# Altium schematic symbol library INNOVMED.SchLib: 57 symbols
Pins are listed as number, name and electrical type; pins without a type are passive.

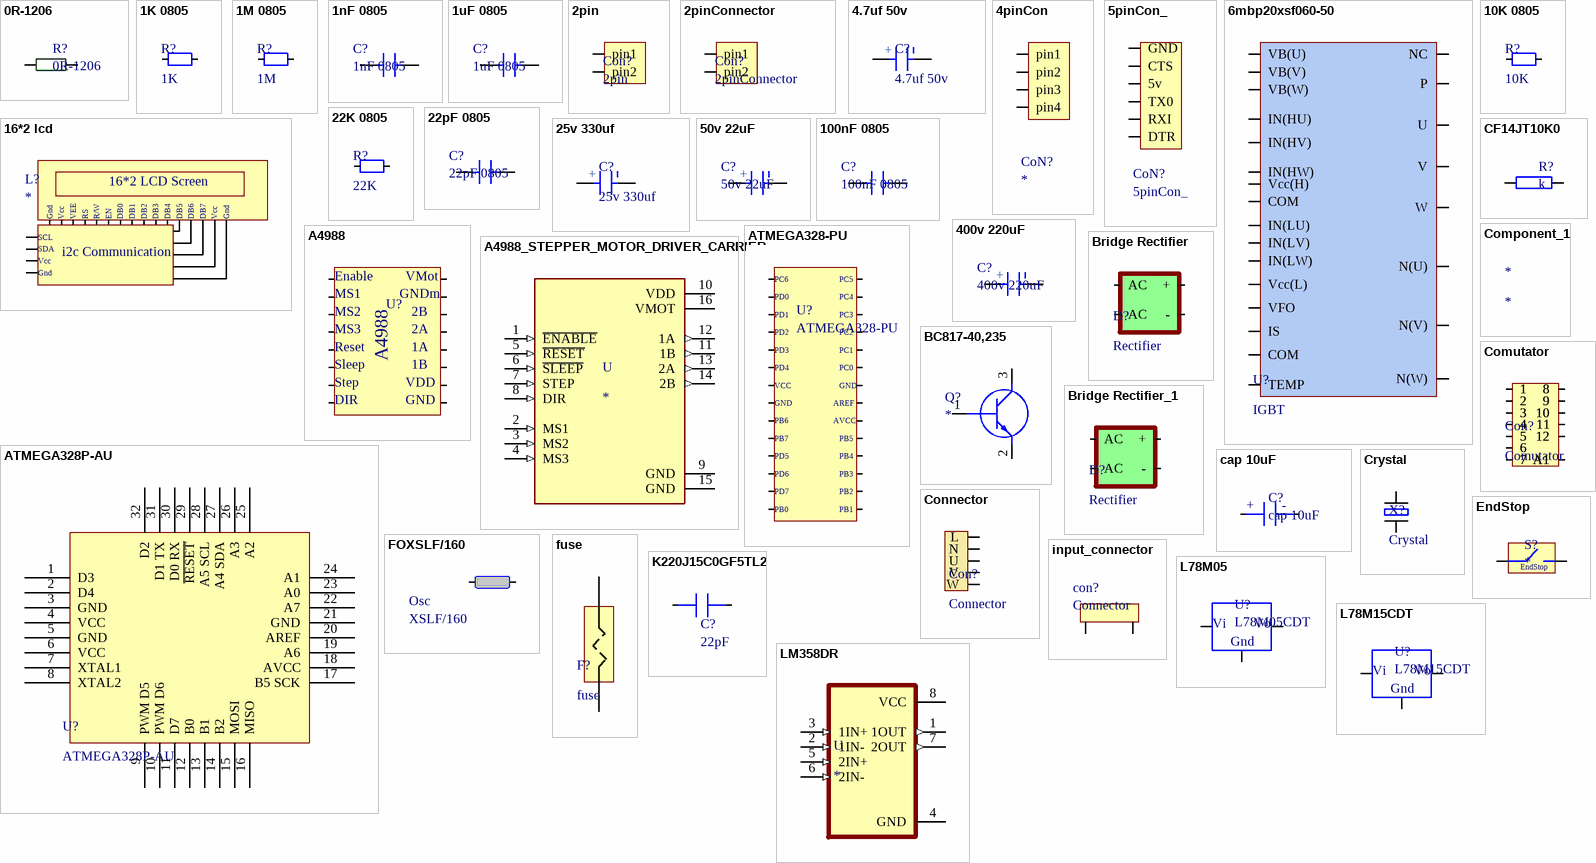
[diagram p0: symbols 0R-1206 to LM358DR]

## 0R-1206
designator R?
Res1206
footprint R-1206
pins: 1, 2

## 1K 0805
designator R?, comment 1K
footprint R-0805R (resistor 0805 reflow soldering)
pins: 1, 2

## 1M 0805
designator R?, comment 1M
footprint R-0805R (resistor 0805 reflow soldering)
pins: 1, 2

## 1nF 0805
designator C?
Manufacturer: Nichicon; Manufacturer Part Number: LKS1J472MESZ; Voltage Rating: 63V; Tolerance: 20%; Ripple Current: 3A; Life (Hours): 1000Hour; Supplier 1: Mouser; RoHS: Yes; Mount: Through Hole; Case/Package: Radial; Min Operating Temperature: -40°C; Max Operating Temperature: 85°C; Package Quantity: 250; Packaging: Bulk; Voltage Rating (DC): 63V; Termination: Snap in; Diameter: 22mm; Length: 45mm; Lead Pitch: 0.394inch; Height - Seated (Max): 1.772inch; Supplier Part Number 1: 647-LKS1J472MESZ; ComponentLink1Description: Link; ComponentLink1URL: https://ozdisan.com/passive-components/capacitors/smt-smd-and-mlcc-capacitors/CL21B102KBANNNC
footprint C-0805R (capacitor 0805 reflow soldering)
pins: 1, 2

## 1uF 0805
designator C?
Manufacturer: Nichicon; Manufacturer Part Number: LKS1J472MESZ; Voltage Rating: 63V; Tolerance: 20%; Ripple Current: 3A; Life (Hours): 1000Hour; Supplier 1: Mouser; RoHS: Yes; Mount: Through Hole; Case/Package: Radial; Min Operating Temperature: -40°C; Max Operating Temperature: 85°C; Package Quantity: 250; Packaging: Bulk; Voltage Rating (DC): 63V; Termination: Snap in; Diameter: 22mm; Length: 45mm; Lead Pitch: 0.394inch; Height - Seated (Max): 1.772inch; Supplier Part Number 1: 647-LKS1J472MESZ
footprint C-0805R (capacitor 0805 reflow soldering)
pins: 1, 2

## 2pin
designator Con?
footprint Contactor
pins: 1 pin1, 2 pin2

## 2pinConnector
designator Con?
footprint 2pinCon
pins: 1 pin1, 2 pin2

## 4.7uf 50v
designator C?
footprint 4x5.3 cap
pins: 1, 2
text: +

## 4pinCon
designator CoN?
footprint 4pinCon
pins: 1 pin1, 2 pin2, 3 pin3, 4 pin4

## 5pinCon_
designator CoN?
footprint 5pinCon
pins: 1 DTR, 2 RXI, 3 TX0, 4 5v, 5 CTS, 6 GND

## 6mbp20xsf060-50
designator U?, comment IGBT
footprint 6MBP20XSF06050P
pins: 3 VB(U), 5 VB(V), 7 VB(W), 9 IN(HU), 10 IN(HV), 11 IN(HW), 12 Vcc(H), 13 COM, 14 IN(LU), 15 IN(LV), 16 IN(LW), 17 Vcc(L), 18 VFO, 19 IS, 20 COM, 21 TEMP, 22 N(W), 23 N(V), 24 N(U), 26 W, 28 V, 30 U, 32 P, 36 NC

## 10K 0805
designator R?, comment 10K
footprint R-0805R (resistor 0805 reflow soldering)
pins: 1, 2

## 16*2 lcd
designator L?
footprint 4pinCon
pins: 1, 2, 3, 4
text: 16*2 LCD Screen; Gnd; Vcc; VEE; RS; R/W; EN; DB0; DB1; DB2; DB3; DB4; DB5; DB6; DB7; SCL; SDA; i2c Communication

## 22K 0805
designator R?, comment 22K
footprint R-0805R (resistor 0805 reflow soldering)
pins: 1, 2

## 22pF 0805
designator C?
Manufacturer: Nichicon; Manufacturer Part Number: LKS1J472MESZ; Voltage Rating: 63V; Tolerance: 20%; Ripple Current: 3A; Life (Hours): 1000Hour; Supplier 1: Mouser; RoHS: Yes; Mount: Through Hole; Case/Package: Radial; Min Operating Temperature: -40°C; Max Operating Temperature: 85°C; Package Quantity: 250; Packaging: Bulk; Voltage Rating (DC): 63V; Termination: Snap in; Diameter: 22mm; Length: 45mm; Lead Pitch: 0.394inch; Height - Seated (Max): 1.772inch; Supplier Part Number 1: 647-LKS1J472MESZ; ComponentLink1Description: Link; ComponentLink1URL: https://ozdisan.com/passive-components/capacitors/smt-smd-and-mlcc-capacitors/CL21C220JCANNNC
footprint C-0805R (capacitor 0805 reflow soldering)
pins: 1, 2

## 25v 330uf
designator C?
ComponentLink1Description: Link; ComponentLink1URL: https://ozdisan.com/passive-components/capacitors/aluminum-capacitors/BXJ25VC330MJ10TP
footprint 10*10 capacitor
pins: 1, 2
text: +

## 50v 22uF
designator C?
Manufacturer: Nichicon; Manufacturer Part Number: LKS1J472MESZ; Capacitance: 4.7mF; Voltage Rating: 63V; Tolerance: 20%; Ripple Current: 3A; Life (Hours): 1000Hour; Supplier 1: Mouser; RoHS: Yes; Mount: Through Hole; Case/Package: Radial; Min Operating Temperature: -40°C; Max Operating Temperature: 85°C; Package Quantity: 250; Packaging: Bulk; Voltage Rating (DC): 63V; Termination: Snap in; Diameter: 22mm; Length: 45mm; Lead Pitch: 0.394inch; Height - Seated (Max): 1.772inch; Supplier Part Number 1: 647-LKS1J472MESZ; ComponentLink3Description: Link; ComponentLink3URL: https://ozdisan.com/passive-components/capacitors/aluminum-capacitors/MRW-050V220ME057-TR
footprint 50v 22uf (Aluminum Electrolytic Capacitor, Body 6.70x6.70x6.30mm, IPC Low Density)
pins: 1, 2
text: +

## 100nF 0805
designator C?
Manufacturer: Nichicon; Manufacturer Part Number: LKS1J472MESZ; Voltage Rating: 63V; Tolerance: 20%; Ripple Current: 3A; Life (Hours): 1000Hour; Supplier 1: Mouser; RoHS: Yes; Mount: Through Hole; Case/Package: Radial; Min Operating Temperature: -40°C; Max Operating Temperature: 85°C; Package Quantity: 250; Packaging: Bulk; Voltage Rating (DC): 63V; Termination: Snap in; Diameter: 22mm; Length: 45mm; Lead Pitch: 0.394inch; Height - Seated (Max): 1.772inch; Supplier Part Number 1: 647-LKS1J472MESZ; ComponentLink2Description: Link; ComponentLink2URL: https://ozdisan.com/Product/Detail/342152/CL21F104ZBANNNC
footprint C-0805R (capacitor 0805 reflow soldering)
pins: 1, 2

## 400v 220uF
designator C?
Manufacturer: Nichicon; Manufacturer Part Number: LKS1J472MESZ; Capacitance: 4.7mF; Voltage Rating: 63V; Tolerance: 20%; Ripple Current: 3A; Life (Hours): 1000Hour; Supplier 1: Mouser; RoHS: Yes; Mount: Through Hole; Case/Package: Radial; Min Operating Temperature: -40°C; Max Operating Temperature: 85°C; Package Quantity: 250; Packaging: Bulk; Voltage Rating (DC): 63V; Termination: Snap in; Diameter: 22mm; Length: 45mm; Lead Pitch: 0.394inch; Height - Seated (Max): 1.772inch; Supplier Part Number 1: 647-LKS1J472MESZ; ComponentLink2Description: https://www.ozdisan.com/pasif-komponentler/kondansatorler/aluminyum-kondansatorler/PKL5-063V472MM450; ComponentLink2URL: https://www.ozdisan.com/pasif-komponentler/kondansatorler/aluminyum-kondansatorler/PKL5-063V472MM450
footprint 400 220Uf
pins: 1, 2
text: +

## A4988
designator U?  (value not drawn)
pins: 1, 2, 3, 4, 5, 6, 7, 8, 9, 10, 11, 12, 13, 14, 15, 16
text: Enable; VMot; MS1; GNDm; MS2; 2B; MS3; 2A; Reset; 1A; Sleep; 1B; Step; VDD; DIR; GND

## A4988_STEPPER_MOTOR_DRIVER_CARRIER
designator U
Stepper Motor Driver; MP: A4988 STEPPER MOTOR DRIVER CARRIER; MF: Pololu; Availability: Unavailable; Price: None; Package: None; Value: *; SnapEDA_Link: https://www.snapeda.com/parts/A4988%20STEPPER%20MOTOR%20DRIVER%20CARRIER/Pololu/view-part/1499394/?ref=snap
footprint MODULE_A4988_STEPPER_MOTOR_DRIVER_CARRIER
pins: 1 ~{ENABLE} (in), 2 MS1 (in), 3 MS2 (in), 4 MS3 (in), 5 ~{RESET} (in), 6 ~{SLEEP} (in), 7 STEP (in), 8 DIR (in), 9 GND (power), 10 VDD (power), 11 1B (out), 12 1A (out), 13 2A (out), 14 2B (out), 15 GND (power), 16 VMOT (power)

## ATMEGA328-PU
designator U?
ATMEL         ATMEGA328-PU            8 Bit Microcontroller, Low Power High Performance, ATmega, 20 MHz, 32 KB, 2 KB, 28 Pins, DIP; Manufacturer: Microchip / Atmel; Core Architecture: AVR; RAM Size: 2KB; Interface: 2-Wire,I2C,SPI,UART,USART; Number of I/Os: 23; Number of Timers/Counters: 3; Max Supply Voltage: 5.5V; Min Supply Voltage: 1.8V; Frequency: 20MHz; Number of PWM Channels: 6; Data Bus Width: 8b; Oscillator Type: Internal; Number of SPI Channels: 1; Watchdog Timer: Yes; Memory Type: FLASH; Memory Size: 32KB; Peripherals: Brown-out Detect/Reset,POR,PWM,WDT; Supplier 1: Digi-Key; Manufacturer Part Number: ATMEGA328-PU; RoHS: Yes; Stock 1: 4361; Pricing 1: 1 = 1,96000, 25 = 1,79240, 100 = 1,62740 (USD); Mount: Through Hole; Case/Package: PDIP; Number of Pins: 28; Contact Plating: Matte,Tin; Min Operating Temperature: -40°C; Max Operating Temperature: 85°C; Package Quantity: 14; Packaging: Rail/Tube; Number of ADC Channels: 6; Number of Programmable I/O: 23; Max Frequency: 20MHz; Number of I2C Channels: 1; Length: 34.8mm; Height: 4.572mm; Width: 7.49mm; Radiation Hardening: No; REACH SVHC: No SVHC; Lead Free: Lead Free; ComponentLink1URL: http://www.rapidonline.com/pdf/73-4281.pdf?src-supplier=Rapid+Electronics; ComponentLink1Description: http://www.rapidonline.com/pdf/73-4281.pdf?src-supplier=Rapid+Electronics; ComponentLink2URL: http://www.farnell.com/datasheets/2047852.pdf?src-supplier=Element14; ComponentLink2Description: http://www.farnell.com/datasheets/2047852.pdf?src-supplier=Element14; Supplier Part Number 1: ATMEGA328-PU-ND
pins: 1, 2, 3, 4, 5, 6, 7, 8, 9, 10, 11, 12, 13, 14, 15, 16, 17, 18, 19, 20, 21, 22, 23, 24, 25, 26, 27, 28
text: PC6; PC5; PD0; PC4; PD1; PC3; PD2; PC2; PD3; PC1; PD4; PC0; VCC; GND; AREF; PB6; AVCC; PB7; PB5; PD5; PB4; PD6; PB3; PD7; PB2; PB0; PB1

## ATMEGA328P-AU
designator U?
Microchip Technology ATMEGA328P-AN, 8bit AVR Microcontroller, 20MHz, 32 kB Flash, 32-Pin TQFP
footprint TQFP80P900X900X120-32N (TQFP, 32-Leads, Body 7.00x7.00mm, Pitch 0.80mm, IPC Medium Density)
pins: 1 D3, 2 D4, 3 GND, 4 VCC, 5 GND, 6 VCC, 7 XTAL1, 8 XTAL2, 9 PWM D5, 10 PWM D6, 11 D7, 12 B0, 13 B1, 14 B2, 15 MOSI, 16 MISO, 17 B5 SCK, 18 AVCC, 19 A6, 20 AREF, 21 GND, 22 A7, 23 A0, 24 A1, 25 A2, 26 A3, 27 A4 SDA, 28 A5 SCL, 29 ~{RESET}, 30 D0 RX, 31 D1 TX, 32 D2

## BC817-40,235
designator Q?
Transistor BJT NPN; Manufacturer_Name: Nexperia; Manufacturer_Part_Number: BC817-40,235; Datasheet Link: http://assets.nexperia.com/documents/data-sheet/BC817_BC817W_BC337.pdf; Height: 1.1mm; Mouser Part Number: 771-BC817-40235; Mouser Price/Stock: https://www.mouser.com/Search/Refine.aspx?Keyword=771-BC817-40235; RS Part Number: 1707957; RS Price/Stock: http://uk.rs-online.com/web/p/products/1707957
footprint SOT95P230X110-3N
pins: 1 B, 2 E, 3 C

## Bridge Rectifier
designator D?, comment Rectifier
footprint Bridge Rectifier
pins: 1 AC, 2 +, 3 -, 4 AC

## Bridge Rectifier_1
designator D?, comment Rectifier
ComponentLink1Description: Link; ComponentLink1URL: https://ozdisan.com/power-semiconductors/diodes-diode-modules-and-rectifiers/bridge-diodes/DF10S-HT
footprint bridge
pins: 1 +, 2 -, 3 AC, 4 AC

## cap 10uF
designator C?
pins: 1, 2
text: +; -

## CF14JT10K0
designator R?, comment k
RES 10K OHM 1/4W 5% AXIAL; Manufacturer: Stackpole Electronics; Manufacturer Part Number: CF14JT10K0; Resistance: 10kR; Power Rating: 250mW; Temperature Coefficient: -500ppm/°C; Supplier 1: Digi-Key; RoHS: Yes; Stock 1: 1940000; Pricing 1: 5000 = 0,00475, 10000 = 0,00413, 25000 = 0,00363, 50000 = 0,00333, 125000 = 0,00326 (USD); Mount: Axial,Through Hole; Case/Package: Conformal; Contact Plating: Matte,Tin; Min Operating Temperature: -55°C; Max Operating Temperature: 155°C; Packaging: Tape and Reel; Tolerance: 5%; Package Quantity: 1; Composition: Carbon Film; Number of Terminations: 2; Military Standard: Not; Termination: Axial; Max Power Dissipation: 250mW; Features: Flame Retardant Coating; Diameter: 2.3mm; Length: 6.5mm; Radiation Hardening: No; Lead Free: Lead Free; Supplier Part Number 1: CF14JT10K0TR-ND
pins: 1, 2

## Component_1
designator *

## Comutator
designator Con?
footprint comutator
pins: 1, 1, 2, 2, 3, 3, 4, 4, 5, 5, 6, 6, 7, 7, 8, 8, 9, 9, 10, 10, 11, 11, 12, 12, A1, A1

## Connector
designator Con?
footprint Connector
pins: 1 L, 2 N, 3 U, 4 V, 5 W

## Crystal
designator X?
AS49SD-16M-FC160F3-TR
footprint crystal
pins: 1, 2

## EndStop
designator S?
pins: 1, 2

## FOXSLF/160
designator Osc, comment XSLF/160
CRYSTAL 16.0000MHZ SERIES T/H; Manufacturer: Fox Electronics; Manufacturer Part Number: FOXSLF/160; Frequency: 16MHz; ESR (Equivalent Series Resistance): 40R; Frequency Tolerance: 30ppm; Load Capacitance: 10pF; Tolerance: 50ppm; Supplier 1: Avnet; RoHS: Yes; Stock 1: 640; Pricing 1: 1 = 0,31290, 10 = 0,24990, 25 = 0,24890, 50 = 0,22990, 100 = 0,19790 (USD); Mount: Through Hole; Number of Pins: 2; Min Operating Temperature: -20°C; Max Operating Temperature: 70°C; Package Quantity: 100; Packaging: Bulk; Frequency Stability: 50ppm; Termination: Radial; Series Resistance: 40R; Length: 0.447inch; Height: 0.142inch; Width: 0.183inch; Depth: 4.65mm; Radiation Hardening: No; Lead Free: Lead Free; ComponentLink1URL: https://www.verical.com/server-webapp/html/getDatasheet?partID=570144&src-supplier=Verical; ComponentLink1Description: https://www.verical.com/server-webapp/html/getDatasheet?partID=570144&src-supplier=Verical; ComponentLink2URL: http://www.foxonline.com/pdfs/hc49slf.pdf?src-supplier=Avnet; ComponentLink2Description: http://www.foxonline.com/pdfs/hc49slf.pdf?src-supplier=Avnet; ComponentLink3URL: http://www.alliedelec.com/m/d/2bb505bcc654a97d0ed1bbb51c9a6d6e.pdf?src-supplier=Allied+Electronics; ComponentLink3Description: http://www.alliedelec.com/m/d/2bb505bcc654a97d0ed1bbb51c9a6d6e.pdf?src-supplier=Allied+Electronics; ComponentLink4URL: http://www.foxonline.com/pdfs/hc49slf.pdf?src-supplier=Avnet+Europe; ComponentLink4Description: http://www.foxonline.com/pdfs/hc49slf.pdf?src-supplier=Avnet+Europe; ComponentLink5URL: https://www.foxonline.com/pdfs/C4ST.pdf?src-supplier=Digi-Key; ComponentLink5Description: https://www.foxonline.com/pdfs/C4ST.pdf?src-supplier=Digi-Key; Supplier Part Number 1: FOXSLF/160-BAG200
pins: 1, 2

## fuse
designator F?
footprint fuse holder
pins: 1, 2

## input_connector
designator con?, comment Connector
pins: 1, 2

## K220J15C0GF5TL2
designator C?, comment 22pF
CAP CER 22PF 50V C0G/NP0 RADIAL; Manufacturer: Vishay BCcomponents; Manufacturer Part Number: K220J15C0GF5TL2; Dielectric Material: Ceramic; Tolerance: 5%; Dielectric: C0G; Lead/Base Style: Straight; Lead Diameter: 0.5mm; Lead Length: 30mm; Supplier 1: Digi-Key; RoHS: Yes; Stock 1: 69696; Pricing 1: 1 = 0,26000, 10 = 0,17400, 100 = 0,08830, 500 = 0,06040, 1000 = 0,05343 (USD); Mount: PCB,Radial,Through Hole; Case/Package: Dipped; Number of Pins: 2; Weight: 0.005291oz; Min Operating Temperature: -55°C; Max Operating Temperature: 125°C; Capacitance: 22pF; Voltage Rating: 50V; Package Quantity: 4000; Packaging: Tape and Reel; Voltage Rating (DC): 50V; Termination: Radial; Voltage: 50V; Length: 4mm; Height: 4mm; Width: 0.098inch; Lead Pitch: 2.5mm; Height - Seated (Max): 0.22inch; Depth: 2.6mm; Radiation Hardening: No; REACH SVHC: Unknown; Lead Free: Lead Free; ComponentLink1URL: http://www.vishay.com/docs/49363/49363_vmn-pt9161.pdf?src-supplier=Digi-Key; ComponentLink1Description: http://www.vishay.com/docs/49363/49363_vmn-pt9161.pdf?src-supplier=Digi-Key; ComponentLink2URL: https://www.alliedelec.com/m/d/0a55132c315b03541979b2302407a53b.pdf?src-supplier=Allied+Electronics; ComponentLink2Description: https://www.alliedelec.com/m/d/0a55132c315b03541979b2302407a53b.pdf?src-supplier=Allied+Electronics; Supplier Part Number 1: BC1005CT-ND
pins: 1, 2

## L78M05
designator U?, comment L78M05CDT
Manufacturer: STMicroelectronics; Manufacturer Part Number: L78M15CDT; Max Output Current: 500mA; Output Voltage: 15V; Number of Outputs: 1; Max Input Voltage: 35V; Polarity: Positive; Quiescent Current: 6mA; Output Type: Fixed; Dropout Voltage: 2V; Supplier 1: Avnet; RoHS: Yes; Mount: Surface Mount; Case/Package: DPAK; Number of Pins: 3; Min Operating Temperature: 0°C; Max Operating Temperature: 150°C; Packaging: Rail/Tube; Output Current: 500mA; Min Input Voltage: 35V; Package Quantity: 75; Length: 6.6mm; Height: 2.4mm; Width: 6.2mm; Radiation Hardening: No; Supplier Part Number 1: L78M15CDT; ComponentLink1Description: Link; ComponentLink1URL: https://ozdisan.com/integrated-circuits-ics/power-management-ics/linear-voltage-regulators/MC7805BDTRKG
footprint TO-252
pins: 1, 2, 3
text: Vi; Vo; Gnd

## L78M15CDT
designator U?
Manufacturer: STMicroelectronics; Max Output Current: 500mA; Output Voltage: 15V; Number of Outputs: 1; Max Input Voltage: 35V; Polarity: Positive; Quiescent Current: 6mA; Output Type: Fixed; Dropout Voltage: 2V; Supplier 1: Avnet; Manufacturer Part Number: L78M15CDT; RoHS: Yes; Mount: Surface Mount; Case/Package: DPAK; Number of Pins: 3; Min Operating Temperature: 0°C; Max Operating Temperature: 150°C; Packaging: Rail/Tube; Output Current: 500mA; Min Input Voltage: 35V; Package Quantity: 75; Length: 6.6mm; Height: 2.4mm; Width: 6.2mm; Radiation Hardening: No; Supplier Part Number 1: L78M15CDT; ComponentLink1Description: link; ComponentLink1URL: https://karakoyelektronik.com/regulator/ua78m15-21734
footprint TO-252
pins: 1, 2, 3
text: Vi; Vo; Gnd

## LM358DR
designator U
Dual standard operational amplifier 8-SOIC 0 to 70; MP: LM358DR; MF: Texas Instruments; Availability: Good; Mouser-Purchase-URL: https://snapeda.com/shop?store=Mouser&id=231187; SnapEDA_Link: https://www.snapeda.com/parts/LM358DR/Texas%20Instruments/view-part/231187/?ref=snap; Price: None; Value: *; Texas_Instruments-Purchase-URL: https://snapeda.com/shop?store=Texas+Instruments&id=231187; Package: SOIC-8 Texas Instruments; DigiKey-Purchase-URL: https://snapeda.com/shop?store=DigiKey&id=231187; ComponentLink1Description: Link; ComponentLink1URL: https://ozdisan.com/Product/Detail/13257/LM358DR
footprint SOIC127P599X175-8N
pins: 1 1OUT (out), 2 1IN- (in), 3 1IN+ (in), 4 GND (power), 5 2IN+ (in), 6 2IN- (in), 7 2OUT (out), 8 VCC (power)

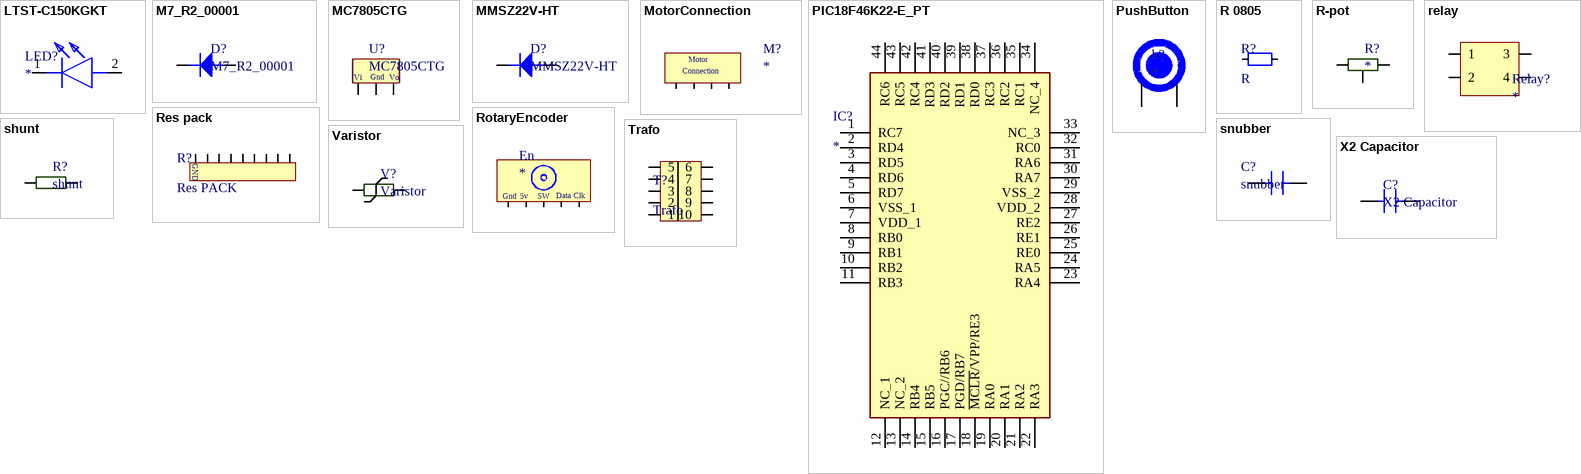
[diagram p1: symbols LTST-C150KGKT to X2 Capacitor]

## LTST-C150KGKT
designator LED?
LED; Manufacturer_Name: Lite-On; Manufacturer_Part_Number: LTST-C150KGKT; Datasheet Link: http://optoelectronics.liteon.com/upload/download/ds22-2000-072/ltst-c150kgkt.pdf; Height: 1.2mm; Mouser Part Number: 859-LTST-C150KGKT; Mouser Price/Stock: https://www.mouser.com/Search/Refine.aspx?Keyword=859-LTST-C150KGKT; RS Part Number: 6920871; RS Price/Stock: https://uk.rs-online.com/web/p/products/6920871
footprint led
pins: 1 K, 2 A

## M7_R2_00001
designator D?
ComponentLink1Description: Link; ComponentLink1URL: https://ozdisan.com/power-semiconductors/diodes-diode-modules-and-rectifiers/general-purpose-diodes/M7R200001
footprint DO-214AC
pins: a, k

## MC7805CTG
designator U?
IC REG LINEAR 5V 1A TO220AB; Manufacturer: ON Semiconductor; Dropout Voltage: 2V; Number of Outputs: 1; Max Input Voltage: 35V; Min Input Voltage: 7V; Polarity: Positive; Quiescent Current: 6.5mA; Accuracy: 4%; Power Supply Rejection Ratio (PSRR): 83dB; Output Type: Fixed; Supplier 1: Digi-Key; Manufacturer Part Number: MC7805CTG; RoHS: Yes; Stock 1: 32419; Pricing 1: 1 = 0,640000, 50 = 0,525400, 100 = 0,428900, 500 = 0,339020, 1000 = 0,271220 (USD); Mount: Through Hole; Case/Package: TO-220; Number of Pins: 3; Weight: 0.211644oz; Min Operating Temperature: 0°C; Max Operating Temperature: 125°C; Packaging: Rail/Tube; Output Voltage: 5V; Output Current: 1A; Current Rating: 1A; Package Quantity: 50; Max Output Current: 1A; Nominal Output Voltage: 5V; Number of Regulators: 1; Min Output Voltage: 5V; Output Voltage Accuracy: 4%; Operating Supply Voltage: 35V; Length: 10.28mm; Height: 0.62inch; Width: 4.82mm; Radiation Hardening: No; REACH SVHC: No SVHC; Lead Free: Lead Free; Halogen Free: Halogen Free; ComponentLink1URL: http://www.onsemi.com/pub/Collateral/MC7800-D.PDF?src-supplier=Digi-Key; ComponentLink1Description: http://www.onsemi.com/pub/Collateral/MC7800-D.PDF?src-supplier=Digi-Key; ComponentLink2URL: http://www.onsemi.com/pub/Collateral/MC7800-D.PDF?src-supplier=Avnet+Europe; ComponentLink2Description: http://www.onsemi.com/pub/Collateral/MC7800-D.PDF?src-supplier=Avnet+Europe; ComponentLink3URL: http://www.farnell.com/datasheets/87758.pdf?src-supplier=Farnell; ComponentLink3Description: http://www.farnell.com/datasheets/87758.pdf?src-supplier=Farnell; ComponentLink4URL: http://www.onsemi.com/pub/Collateral/MC7800-D.PDF?src-supplier=Avnet; ComponentLink4Description: http://www.onsemi.com/pub/Collateral/MC7800-D.PDF?src-supplier=Avnet; ComponentLink5URL: http://www.onsemi.com/pub/Collateral/MC7800-D.PDF?src-supplier=Avnet+Asia; ComponentLink5Description: http://www.onsemi.com/pub/Collateral/MC7800-D.PDF?src-supplier=Avnet+Asia; ComponentLink6URL: http://www.jameco.com/Jameco/Products/ProdDS/876248.pdf?src-supplier=Jameco; ComponentLink6Description: http://www.jameco.com/Jameco/Products/ProdDS/876248.pdf?src-supplier=Jameco; ComponentLink7URL: http://www.farnell.com/datasheets/1878412.pdf?src-supplier=Element14; ComponentLink7Description: http://www.farnell.com/datasheets/1878412.pdf?src-supplier=Element14; ComponentLink8URL: http://www.farnell.com/datasheets/87758.pdf?src-supplier=Element14; ComponentLink8Description: http://www.farnell.com/datasheets/87758.pdf?src-supplier=Element14; ComponentLink9URL: https://www.verical.com/server-webapp/html/getDatasheet?partID=110532&src-supplier=Verical; ComponentLink9Description: https://www.verical.com/server-webapp/html/getDatasheet?partID=110532&src-supplier=Verical; ComponentLink10URL: http://datasheet.iiic.cc/on_semiconductor/MC7805CTG.pdf?src-supplier=IIIC; ComponentLink10Description: http://datasheet.iiic.cc/on_semiconductor/MC7805CTG.pdf?src-supplier=IIIC; Supplier Part Number 1: MC7805CTGOS-ND
pins: 0, 1, 2
text: Vi; Gnd; Vo

## MMSZ22V-HT
designator D?
ComponentLink1Description: Link; ComponentLink1URL: https://ozdisan.com/power-semiconductors/diodes-diode-modules-and-rectifiers/zener-diodes/MMSZ22V-HT
footprint SOD123
footprint SOD123
pins: a, k

## MotorConnection
designator M?
footprint 4pinCon
pins: 1, 2, 3, 4
text: Motor; Connection

## PIC18F46K22-E_PT
designator IC?
Integrated Circuit; Manufacturer_Name: Microchip; Manufacturer_Part_Number: PIC18F46K22-E/PT; Datasheet Link: https://componentsearchengine.com/Datasheets/1/PIC18F46K22-E_PT.pdf; Height: 1.2mm; Mouser Part Number: 579-PIC18F46K22EPT; Mouser Price/Stock: https://www.mouser.co.uk/ProductDetail/Microchip-Technology/PIC18F46K22-E-PT/?qs=RXaOwepKlZ1VZ48%252B%252BLjZBQ%3D%3D; Arrow Part Number: PIC18F46K22-E/PT; Arrow Price/Stock: https://www.arrow.com/en/products/pic18f46k22-ept/microchip-technology
footprint QFP80P1200X1200X120-44N
pins: 1 RC7, 2 RD4, 3 RD5, 4 RD6, 5 RD7, 6 VSS_1, 7 VDD_1, 8 RB0, 9 RB1, 10 RB2, 11 RB3, 12 NC_1, 13 NC_2, 14 RB4, 15 RB5, 16 PGC//RB6, 17 PGD/RB7, 18 ~{MCLR}/VPP/RE3, 19 RA0, 20 RA1, 21 RA2, 22 RA3, 23 RA4, 24 RA5, 25 RE0, 26 RE1, 27 RE2, 28 VDD_2, 29 VSS_2, 30 RA7, 31 RA6, 32 RC0, 33 NC_3, 34 NC_4, 35 RC1, 36 RC2, 37 RC3, 38 RD0, 39 RD1, 40 RD2, 41 RD3, 42 RC4, 43 RC5, 44 RC6

## PushButton
designator b?
footprint 2pinCon
pins: 1, 2

## R 0805
designator R?, comment R
footprint R-0805R (resistor 0805 reflow soldering)
pins: 1, 2

## R-pot
designator R?
Res1206
footprint pot
pins: 1, 2, 3

## relay
designator Relay?
footprint Relay
pins: 1, 2, 3, 4

## Res pack
designator R?, comment Res PACK
footprint resistor Pack
pins: 1 GND, 2, 3, 4, 5, 6, 7, 8, 9

## RotaryEncoder
designator En
pins: 1, 2, 3, 4, 5
text: Gnd; 5v; SW; Data; Clk

## shunt
designator R?
Res1206
footprint shunt
pins: 1, 2

## snubber
designator C?
Manufacturer: Nichicon; Manufacturer Part Number: LKS1J472MESZ; Voltage Rating: 63V; Tolerance: 20%; Ripple Current: 3A; Life (Hours): 1000Hour; Supplier 1: Mouser; RoHS: Yes; Mount: Through Hole; Case/Package: Radial; Min Operating Temperature: -40°C; Max Operating Temperature: 85°C; Package Quantity: 250; Packaging: Bulk; Voltage Rating (DC): 63V; Termination: Snap in; Diameter: 22mm; Length: 45mm; Lead Pitch: 0.394inch; Height - Seated (Max): 1.772inch; Supplier Part Number 1: 647-LKS1J472MESZ
footprint snubber
pins: 1, 2

## Trafo
designator T?
footprint trafo
pins: 1, 2, 3, 4, 5, 6, 7, 8, 9, 10

## Varistor
designator V?
ComponentLink1Description: Link; ComponentLink1URL: https://ozdisan.com/power-semiconductors/circuit-protection-components/varistors/TVR10391KSY
footprint varistor
pins: 1, 2

## X2 Capacitor
designator C?
ComponentLink1Description: Link; ComponentLink1URL: https://ozdisan.com/passive-components/capacitors/film-capacitors/W42Q3104KK6SD1A0W1
footprint x2 capacitor
pins: 1, 2